# Altium footprint library PIF_robot.PcbLib: 8 footprints
Each footprint in its own frame and in the unit in brackets; x right, y up, seen from the top. Pads: shape width x height; smd on the part's side, far side on the other; paste and mask are expansions set on the pad; w line width, h text height; cw(c..) or ccw(c..) is an arc to the next point about the centre after c.
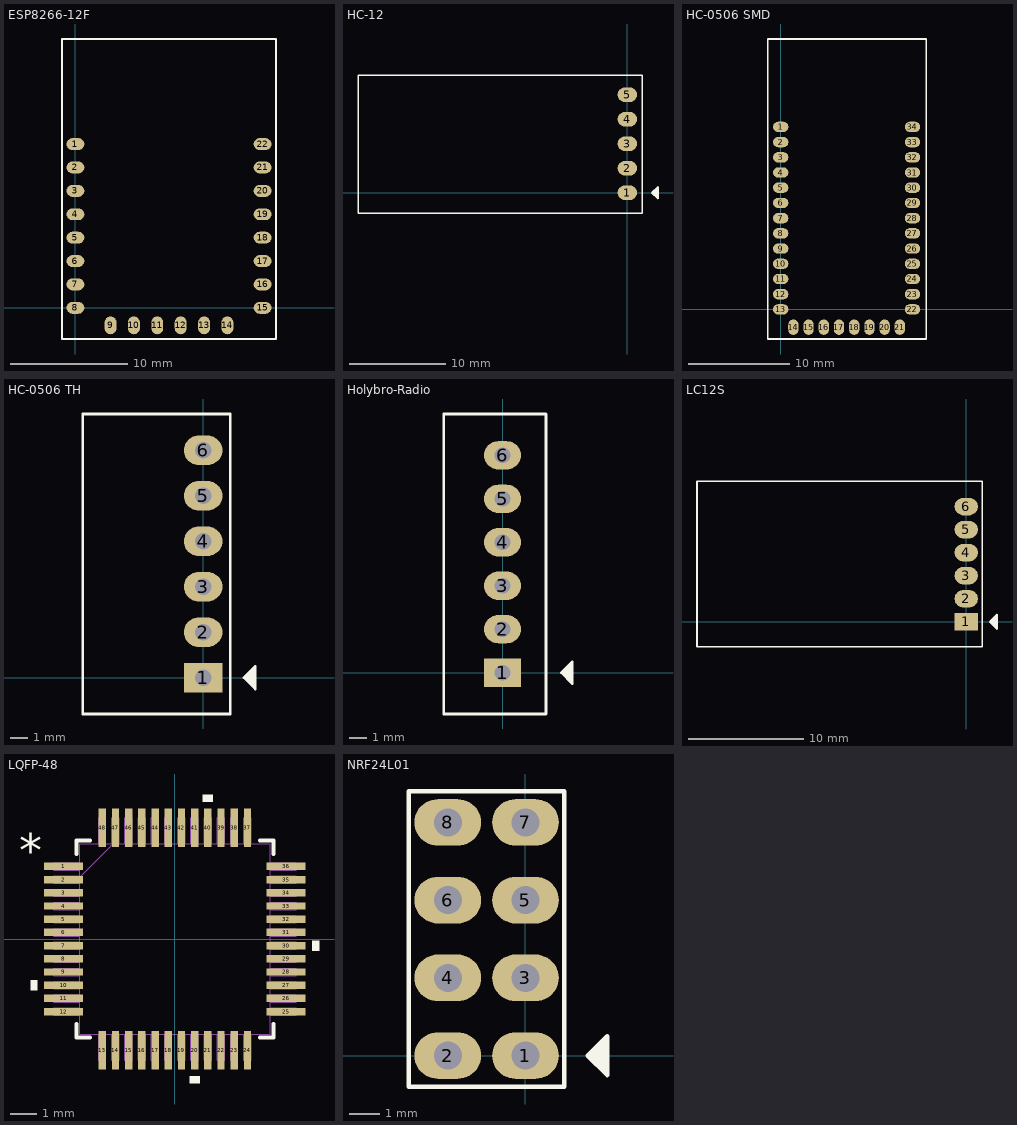
[diagram p0: the footprints below, top view; thin cyan lines are the x and y axes]

## ESP8266-12F [mil]
pads (22):
  oval 60x40 smd: 1(0,551.18) 2(0,472.44) 3(0,393.7) 4(0,314.96) 5(0,236.22) 6(0,157.48) 7(0,78.74) 8(0,0) 15(629.92,0) 16(629.92,78.74) 17(629.92,157.48) 18(629.92,236.22) 19(629.92,314.96) 20(629.92,393.7) 21(629.92,472.44) 22(629.92,551.18)
  oval 40x60 smd: 9(118.11,-59.06) 10(196.85,-59.06) 11(275.59,-59.06) 12(354.33,-59.06) 13(433.07,-59.06) 14(511.81,-59.06)
Top Overlay:
  lines w6: -45,-105 675,-105 675,905 -45,905 -45,-105
3D body "EPS8266 ESP-12F.STEP": height 104.33, standoff -1.38, extent -0.2,-59.29 630.12,885.79

## HC-12 [mil]
pads (5):
  oval 80x60 smd: 1(0,0) 2(0,100) 3(0,200) 4(0,300) 5(0,400)
Top Overlay:
  region: 125,25 100,0 125,-25
  region: 30,-450
  lines w6: -1100,-85 60,-85 60,480 -1100,480 -1100,-85 ; 100,0 125,25 125,-25 100,0
3D body "HC-12 SI4463 WIRELESS SERIAL MODULE.STEP": height 1019.68, standoff 0, extent -1081.12,-64.81 9.34,458.81

## HC-0506 SMD [mil]
pads (34):
  oval 60x40 smd: 1(0,708.66) 2(0,649.61) 3(0,590.55) 4(0,531.5) 5(0,472.44) 6(0,413.39) 7(0,354.33) 8(0,295.28) 9(0,236.22) 10(0,177.17) 11(0,118.11) 12(0,59.06) 13(0,0) 22(511.81,0) 23(511.81,59.06) 24(511.81,118.11) 25(511.81,177.17) 26(511.81,236.22) 27(511.81,295.28) 28(511.81,354.33) 29(511.81,413.39) 30(511.81,472.44) 31(511.81,531.5) 32(511.81,590.55) 33(511.81,649.61) 34(511.81,708.66)
  oval 40x60 smd: 14(49.21,-68.9) 15(108.27,-68.9) 16(167.32,-68.9) 17(226.38,-68.9) 18(285.43,-68.9) 19(344.49,-68.9) 20(403.54,-68.9) 21(462.6,-68.9)
Top Overlay:
  lines w6: -50,-115 -50,1050 565,1050 565,-115 555,-115 -50,-115
3D body "Bluetooth HC-06_.STEP": height 92.52, standoff 0, extent -20.08,-70 531.89,1032.76

## HC-0506 TH [mil]
pads (6):
  rect 85x65 hole 36: 1(0,0)
  oval 85x65 hole 36: 2(0,100) 3(0,200) 4(0,300) 5(0,400) 6(0,500)
Top Overlay:
  region: 115,25 90,0 115,-25
  lines w6: -265,-80 -183.75,-80 -21.25,-80 60,-80 60,580 -265,580 -265,-80 ; 90,0 115,25 115,-25 90,0
3D body "HC-05.STEP": height 1678.35, standoff 1.84, extent -247.37,-63.78 10.51,566.14

## Holybro-Radio [mil]
pads (6):
  rect 85x65 hole 36: 1(0,0)
  oval 85x65 hole 36: 2(0,100) 3(0,200) 4(0,300) 5(0,400) 6(0,500)
Top Overlay:
  region: 160,25 135,0 160,-25
  lines w6: -135,-95 -135,595 100,595 100,-95 -135,-95 ; 135,0 160,-25 160,25 135,0
3D body "JST - XH - Thru (V) - 6Pin - 2.54mm.stp": height 284, standoff -118, extent -131.5,-92.5 98.5,591.5

## LC12S [mil]
pads (6):
  rect 80x60 smd: 1(0,0)
  oval 80x60 smd: 2(0,78.74) 3(0,157.48) 4(0,236.22) 5(0,314.96) 6(0,393.7)
Top Overlay:
  region: 105,25 105,-25 80,0
  lines w5: 80,0 85,5 105,25 105,-25 80,0
  lines w6: -920,-85 55,-85 55,480 -920,480 -920,-85
3D body: height 63.11, standoff 0, extent -270,205 -270,205
3D body "LC12S.STEP": height 78.74, standoff 0, extent -908.31,-70.6 9.02,468.77

## LQFP-48 [mil]
pads (48):
  rect 58x11 smd: 1(-166,108.27) 2(-166,88.58) 3(-166,68.9) 4(-166,49.21) 5(-166,29.53) 6(-166,9.84) 7(-166,-9.84) 8(-166,-29.53) 9(-166,-49.21) 10(-166,-68.9) 11(-166,-88.58) 12(-166,-108.27) 25(166,-108.27) 26(166,-88.58) 27(166,-68.9) 28(166,-49.21) 29(166,-29.53) 30(166,-9.84) 31(166,9.84) 32(166,29.53) 33(166,49.21) 34(166,68.9) 35(166,88.58) 36(166,108.27)
  rect 11x58 smd: 13(-108.27,-166) 14(-88.58,-166) 15(-68.9,-166) 16(-49.21,-166) 17(-29.53,-166) 18(-9.84,-166) 19(9.84,-166) 20(29.53,-166) 21(49.21,-166) 22(68.9,-166) 23(88.58,-166) 24(108.27,-166) 37(108.27,166) 38(88.58,166) 39(68.9,166) 40(49.21,166) 41(29.53,166) 42(9.84,166) 43(-9.84,166) 44(-29.53,166) 45(-49.21,166) 46(-68.9,166) 47(-88.58,166) 48(-108.27,166)
Top Overlay:
  region: -205,-61.4 -215,-61.4 -215,-76.4 -205,-76.4
  region: 37.03,-205 22.03,-205 22.03,-215 37.03,-215
  region: 205,-2.34 215,-2.34 215,-17.34 205,-17.34
  region: 56.71,205 41.71,205 41.71,215 56.71,215
  lines w6: -147,-126.87 -147,-147 -126.87,-147 ; -147,126.87 -147,147 -126.87,147 ; 126.87,-147 147,-147 147,-126.87 ; 126.87,147 147,147 147,126.87
  text "*" at -232.5,108.11 h50
Mechanical 13:
  drawing of 197 lines, arcs and shapes, not listed
  text "*" at -139.5,93.11 h50
3D body: height 10, standoff 0, extent 0,0 10,10
3D body: height 63.11, standoff 0, extent 0,0 0,0
3D body "LQFP-48.step": height 66.11, standoff 3, extent -180.98,-180.98 180.99,180.99

## NRF24L01 [mil]
pads (8):
  oval 86x60 hole 36: 1(0,0) 2(-100,0) 3(0,100) 4(-100,100) 5(0,200) 6(-100,200) 7(0,300) 8(-100,300)
Top Overlay:
  region: 105,25 80,0 105,-25
  lines w6: -150,-40 50,-40 50,340 -150,340 -150,-40 ; 80,0 105,-25 105,25 80,0
3D body "NRF24l01_with_antenna.STEP": height 3860.96, standoff -24.41, extent -2827.3,-149.69 86.09,450.7